# Altium footprint library WR-TBL_Pluggable Connector_7.62mm.PcbLib: 79 footprints (part 3 of 5)
Each footprint in its own frame and in the unit in brackets; x right, y up, seen from the top. Pads: shape width x height; smd on the part's side, far side on the other; paste and mask are expansions set on the pad; w line width, h text height; cw(c..) or ccw(c..) is an arc to the next point about the centre after c.
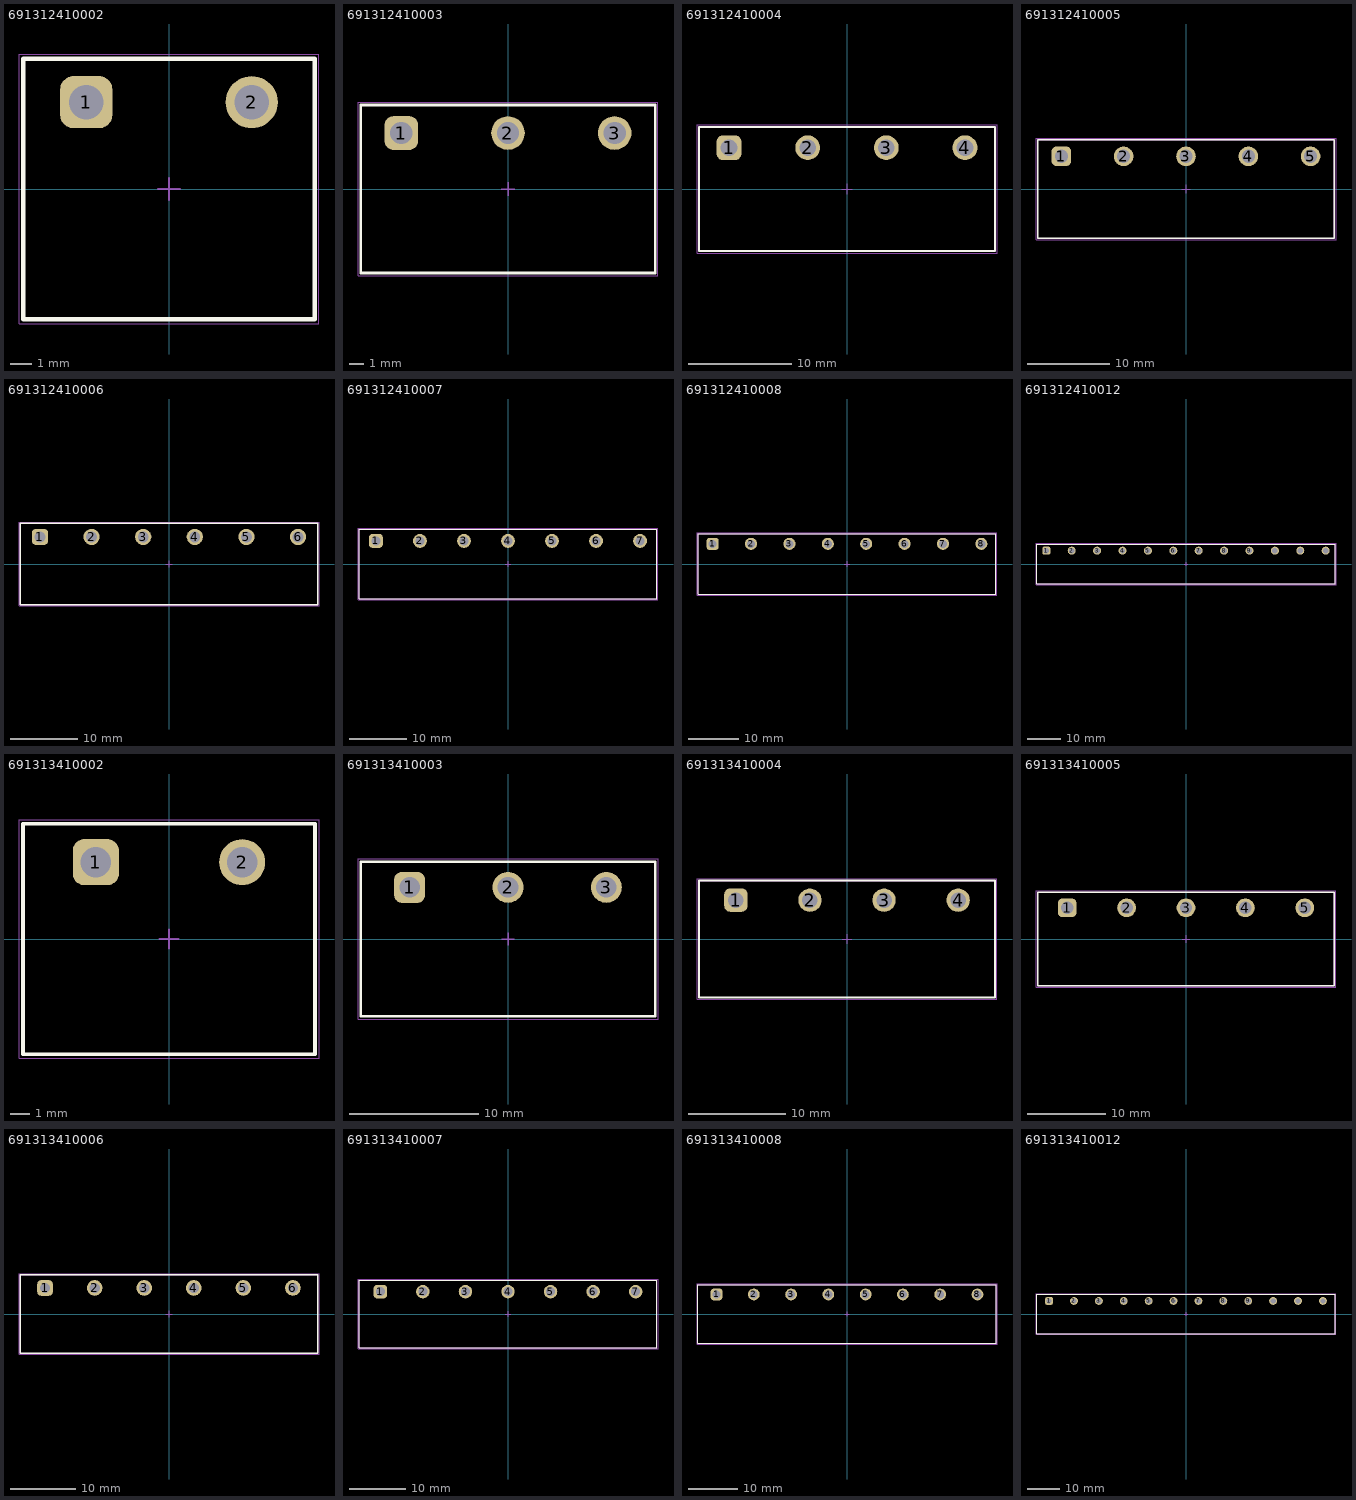
[diagram p2: the footprints below, top view; thin cyan lines are the x and y axes]

## 691312410002 [mm] "7.62 mm -Open Horizontal PCB Header - 02p"
height 8.5
pads (2):
  rrect50% 2.4x2.4 hole 1.6: 1(-3.81,4)
  round 2.4 hole 1.6: 2(3.81,4)
Top Overlay:
  lines w0.2: -6.71,-6 6.71,-6 6.71,6 -6.71,6 -6.71,-6
Top Assembly:
  lines w0.1: -6.71,-6 -6.71,6 6.71,6 6.71,-6 -6.71,-6
Top Designator:
  text ".Designator" at -3.647,-0.357 h1
Top 3D Body:
  lines w0.1: -6.71,-6 6.71,-6 6.71,6 -6.71,6 -6.71,-6
Top Courtyard:
  lines w0.05: -6.91,-6.2 -6.91,6.2 6.91,6.2 6.91,-6.2 -6.91,-6.2
Top Component Center:
  lines w0.1: -0.5,0 0.5,0 ; 0,-0.5 0,0.5
3D body "691312410002.stp": height 8.55, standoff -3.95, extent -6.71,-6 6.71,6

## 691312410003 [mm] "7.62 mm -Open Horizontal PCB Header - 03p"
height 8.5
pads (3):
  rrect50% 2.4x2.4 hole 1.6: 1(-7.62,4)
  round 2.4 hole 1.6: 2(0,4) 3(7.62,4)
Top Overlay:
  lines w0.2: -10.52,-6 -10.52,6 10.52,6 10.52,-6 -10.52,-6
Top Assembly:
  lines w0.1: -10.52,-6 10.52,-6 10.52,6 -10.52,6 -10.52,-6
Top Designator:
  text ".Designator" at -3.647,-0.357 h1
Top 3D Body:
  lines w0.1: -10.52,-6 -10.52,6 10.52,6 10.52,-6 -10.52,-6
Top Courtyard:
  lines w0.05: -10.72,-6.2 10.72,-6.2 10.72,6.2 -10.72,6.2 -10.72,-6.2
Top Component Center:
  lines w0.1: -0.5,0 0.5,0 ; 0,-0.5 0,0.5
3D body "691312410003.stp": height 8.55, standoff -3.95, extent -10.52,-6 10.52,6

## 691312410004 [mm] "7.62 mm -Open Horizontal PCB Header - 04p"
height 8.5
pads (4):
  rrect50% 2.4x2.4 hole 1.6: 1(-11.43,4)
  round 2.4 hole 1.6: 2(-3.81,4) 3(3.81,4) 4(11.43,4)
Top Overlay:
  lines w0.2: -14.33,-6 -14.33,6 14.33,6 14.33,-6 -14.33,-6
Top Assembly:
  lines w0.1: -14.33,-6 14.33,-6 14.33,6 -14.33,6 -14.33,-6
Top Designator:
  text ".Designator" at -3.647,-0.357 h1
Top 3D Body:
  lines w0.1: -14.33,-6 -14.33,6 14.33,6 14.33,-6 -14.33,-6
Top Courtyard:
  lines w0.05: -14.53,-6.2 14.53,-6.2 14.53,6.2 -14.53,6.2 -14.53,-6.2
Top Component Center:
  lines w0.1: -0.5,0 0.5,0 ; 0,-0.5 0,0.5
3D body "691312410004.stp": height 8.55, standoff -3.95, extent -14.33,-6 14.33,6

## 691312410005 [mm] "7.62 mm -Open Horizontal PCB Header - 05p"
height 8.5
pads (5):
  rrect50% 2.4x2.4 hole 1.6: 1(-15.24,4)
  round 2.4 hole 1.6: 2(-7.62,4) 3(0,4) 4(7.62,4) 5(15.24,4)
Top Overlay:
  lines w0.2: -18.14,-6 -18.14,6 18.14,6 18.14,-6 -18.14,-6
Top Assembly:
  lines w0.1: -18.14,-6 18.14,-6 18.14,6 -18.14,6 -18.14,-6
Top Designator:
  text ".Designator" at -3.647,-0.357 h1
Top 3D Body:
  lines w0.1: -18.14,-6 -18.14,6 18.14,6 18.14,-6 -18.14,-6
Top Courtyard:
  lines w0.05: -18.34,-6.2 18.34,-6.2 18.34,6.2 -18.34,6.2 -18.34,-6.2
Top Component Center:
  lines w0.1: -0.5,0 0.5,0 ; 0,-0.5 0,0.5
3D body "691312410005.stp": height 8.55, standoff -3.95, extent -18.14,-6 18.14,6

## 691312410006 [mm] "7.62 mm -Open Horizontal PCB Header - 06p"
height 8.5
pads (6):
  rrect50% 2.4x2.4 hole 1.6: 1(-19.05,4)
  round 2.4 hole 1.6: 2(-11.43,4) 3(-3.81,4) 4(3.81,4) 5(11.43,4) 6(19.05,4)
Top Overlay:
  lines w0.2: -21.95,-6 -21.95,6 21.95,6 21.95,-6 -21.95,-6
Top Assembly:
  lines w0.1: -21.95,-6 21.95,-6 21.95,6 -21.95,6 -21.95,-6
Top Designator:
  text ".Designator" at -3.647,-0.357 h1
Top 3D Body:
  lines w0.1: -21.95,-6 -21.95,6 21.95,6 21.95,-6 -21.95,-6
Top Courtyard:
  lines w0.05: -22.15,-6.2 22.15,-6.2 22.15,6.2 -22.15,6.2 -22.15,-6.2
Top Component Center:
  lines w0.1: -0.5,0 0.5,0 ; 0,-0.5 0,0.5
3D body "691312410006.stp": height 8.55, standoff -3.95, extent -21.95,-6 21.95,6

## 691312410007 [mm] "7.62 mm -Open Horizontal PCB Header - 07p"
height 8.5
pads (7):
  rrect50% 2.4x2.4 hole 1.6: 1(-22.86,4)
  round 2.4 hole 1.6: 2(-15.24,4) 3(-7.62,4) 4(0,4) 5(7.62,4) 6(15.24,4) 7(22.86,4)
Top Overlay:
  lines w0.2: -25.76,-6 25.76,-6 25.76,6 -25.76,6 -25.76,-6
Top Assembly:
  lines w0.1: -25.76,-6 -25.76,6 25.76,6 25.76,-6 -25.76,-6
Top Designator:
  text ".Designator" at -3.647,-0.357 h1
Top 3D Body:
  lines w0.1: -25.76,-6 25.76,-6 25.76,6 -25.76,6 -25.76,-6
Top Courtyard:
  lines w0.05: -25.96,-6.2 -25.96,6.2 25.96,6.2 25.96,-6.2 -25.96,-6.2
Top Component Center:
  lines w0.1: -0.5,0 0.5,0 ; 0,-0.5 0,0.5
3D body "691312410007.stp": height 8.55, standoff -3.95, extent -25.76,-6 25.76,6

## 691312410008 [mm] "7.62 mm -Open Horizontal PCB Header - 08p"
height 8.5
pads (8):
  rrect50% 2.4x2.4 hole 1.6: 1(-26.67,4)
  round 2.4 hole 1.6: 2(-19.05,4) 3(-11.43,4) 4(-3.81,4) 5(3.81,4) 6(11.43,4) 7(19.05,4) 8(26.67,4)
Top Overlay:
  lines w0.2: -29.57,-6 29.57,-6 29.57,6 -29.57,6 -29.57,-6
Top Assembly:
  lines w0.1: -29.57,-6 -29.57,6 29.57,6 29.57,-6 -29.57,-6
Top Designator:
  text ".Designator" at -3.647,-0.357 h1
Top 3D Body:
  lines w0.1: -29.57,-6 29.57,-6 29.57,6 -29.57,6 -29.57,-6
Top Courtyard:
  lines w0.05: -29.77,-6.2 -29.77,6.2 29.77,6.2 29.77,-6.2 -29.77,-6.2
Top Component Center:
  lines w0.1: -0.5,0 0.5,0 ; 0,-0.5 0,0.5
3D body "691312410008.stp": height 8.55, standoff -3.95, extent -29.57,-6 29.57,6

## 691312410012 [mm] "7.62 mm -Open Horizontal PCB Header - 12p"
height 8.5
pads (12):
  rrect50% 2.4x2.4 hole 1.6: 1(-41.91,4)
  round 2.4 hole 1.6: 2(-34.29,4) 3(-26.67,4) 4(-19.05,4) 5(-11.43,4) 6(-3.81,4) 7(3.81,4) 8(11.43,4) 9(19.05,4) 10(26.67,4) 11(34.29,4) 12(41.91,4)
Top Overlay:
  lines w0.2: -44.81,-6 -44.81,6 44.81,6 44.81,-6 -44.81,-6
Top Assembly:
  lines w0.1: -44.81,-6 44.81,-6 44.81,6 -44.81,6 -44.81,-6
Top Designator:
  text ".Designator" at -3.647,-0.357 h1
Top 3D Body:
  lines w0.1: -44.81,-6 -44.81,6 44.81,6 44.81,-6 -44.81,-6
Top Courtyard:
  lines w0.05: -45.01,-6.2 45.01,-6.2 45.01,6.2 -45.01,6.2 -45.01,-6.2
Top Component Center:
  lines w0.1: -0.5,0 0.5,0 ; 0,-0.5 0,0.5
3D body "691312410012.stp": height 8.55, standoff -3.95, extent -44.81,-6 44.81,6

## 691313410002 [mm] "7.62 mm - Closed Horizonal PCB Header - 2p"
height 8.5
pads (2):
  rrect50% 2.4x2.4 hole 1.6: 1(-3.81,4)
  round 2.4 hole 1.6: 2(3.81,4)
Top Overlay:
  lines w0.2: -7.61,-6 7.61,-6 7.61,6 -7.61,6 -7.61,-6
Top Assembly:
  lines w0.1: -7.61,-6 -7.61,6 7.61,6 7.61,-6 -7.61,-6
Top Designator:
  text ".Designator" at -3.647,-0.357 h1
Top 3D Body:
  lines w0.1: -7.61,-6 7.61,-6 7.61,6 -7.61,6 -7.61,-6
Top Courtyard:
  lines w0.05: -7.81,-6.2 7.81,-6.2 7.81,6.2 -7.81,6.2 -7.81,-6.2
Top Component Center:
  lines w0.1: -0.5,0 0.5,0 ; 0,-0.5 0,0.5
3D body "691313410002.stp": height 8.55, standoff -3.95, extent -7.62,-6 7.62,6

## 691313410003 [mm] "7.62 mm - Closed Horizonal PCB Header - 3p"
height 8.5
pads (3):
  rrect50% 2.4x2.4 hole 1.6: 1(-7.62,4)
  round 2.4 hole 1.6: 2(0,4) 3(7.62,4)
Top Overlay:
  lines w0.2: -11.42,-6 -11.42,6 11.42,6 11.42,-6 -11.42,-6
Top Assembly:
  lines w0.1: -11.42,-6 11.42,-6 11.42,6 -11.42,6 -11.42,-6
Top Designator:
  text ".Designator" at -3.647,-0.357 h1
Top 3D Body:
  lines w0.1: -11.42,-6 -11.42,6 11.42,6 11.42,-6 -11.42,-6
Top Courtyard:
  lines w0.05: -11.62,-6.2 -11.62,6.2 11.62,6.2 11.62,-6.2 -11.62,-6.2
Top Component Center:
  lines w0.1: -0.5,0 0.5,0 ; 0,-0.5 0,0.5
3D body "691313410003.stp": height 8.55, standoff -3.95, extent -11.43,-6 11.43,6

## 691313410004 [mm] "7.62 mm - Closed Horizonal PCB Header - 4p"
height 8.5
pads (4):
  rrect50% 2.4x2.4 hole 1.6: 1(-11.43,4)
  round 2.4 hole 1.6: 2(-3.81,4) 3(3.81,4) 4(11.43,4)
Top Overlay:
  lines w0.2: -15.23,-6 15.23,-6 15.23,6 -15.23,6 -15.23,-6
Top Assembly:
  lines w0.1: -15.23,-6 -15.23,6 15.23,6 15.23,-6 -15.23,-6
Top Designator:
  text ".Designator" at -3.647,-0.357 h1
Top 3D Body:
  lines w0.1: -15.23,-6 15.23,-6 15.23,6 -15.23,6 -15.23,-6
Top Courtyard:
  lines w0.05: -15.43,-6.2 15.43,-6.2 15.43,6.2 -15.43,6.2 -15.43,-6.2
Top Component Center:
  lines w0.1: -0.5,0 0.5,0 ; 0,-0.5 0,0.5
3D body "691313410004.stp": height 8.55, standoff -3.95, extent -15.24,-6 15.24,6

## 691313410005 [mm] "7.62 mm - Closed Horizonal PCB Header - 5p"
height 8.5
pads (5):
  rrect50% 2.4x2.4 hole 1.6: 1(-15.24,4)
  round 2.4 hole 1.6: 2(-7.62,4) 3(0,4) 4(7.62,4) 5(15.24,4)
Top Overlay:
  lines w0.2: -19.04,-6 -19.04,6 19.04,6 19.04,-6 -19.04,-6
Top Assembly:
  lines w0.1: -19.04,-6 19.04,-6 19.04,6 -19.04,6 -19.04,-6
Top Designator:
  text ".Designator" at -3.647,-0.357 h1
Top 3D Body:
  lines w0.1: -19.04,-6 -19.04,6 19.04,6 19.04,-6 -19.04,-6
Top Courtyard:
  lines w0.05: -19.24,-6.2 -19.24,6.2 19.24,6.2 19.24,-6.2 -19.24,-6.2
Top Component Center:
  lines w0.1: -0.5,0 0.5,0 ; 0,-0.5 0,0.5
3D body "691313410005.stp": height 8.55, standoff -3.95, extent -19.05,-6 19.05,6

## 691313410006 [mm] "7.62 mm - Closed Horizonal PCB Header - 6p"
height 8.5
pads (6):
  rrect50% 2.4x2.4 hole 1.6: 1(-19.05,4)
  round 2.4 hole 1.6: 2(-11.43,4) 3(-3.81,4) 4(3.81,4) 5(11.43,4) 6(19.05,4)
Top Overlay:
  lines w0.2: -22.85,-6 -22.85,6 22.85,6 22.85,-6 -22.85,-6
Top Assembly:
  lines w0.1: -22.85,-6 22.85,-6 22.85,6 -22.85,6 -22.85,-6
Top Designator:
  text ".Designator" at -3.647,-0.357 h1
Top 3D Body:
  lines w0.1: -22.85,-6 -22.85,6 22.85,6 22.85,-6 -22.85,-6
Top Courtyard:
  lines w0.05: -23.05,-6.2 -23.05,6.2 23.05,6.2 23.05,-6.2 -23.05,-6.2
Top Component Center:
  lines w0.1: -0.5,0 0.5,0 ; 0,-0.5 0,0.5
3D body "691313410006.stp": height 8.55, standoff -3.95, extent -22.86,-6 22.86,6

## 691313410007 [mm] "7.62 mm - Closed Horizonal PCB Header - 7p"
height 8.5
pads (7):
  rrect50% 2.4x2.4 hole 1.6: 1(-22.86,4)
  round 2.4 hole 1.6: 2(-15.24,4) 3(-7.62,4) 4(0,4) 5(7.62,4) 6(15.24,4) 7(22.86,4)
Top Overlay:
  lines w0.2: -26.66,-6 26.66,-6 26.66,6 -26.66,6 -26.66,-6
Top Assembly:
  lines w0.1: -26.66,-6 -26.66,6 26.66,6 26.66,-6 -26.66,-6
Top Designator:
  text ".Designator" at -3.647,-0.357 h1
Top 3D Body:
  lines w0.1: -26.66,-6 26.66,-6 26.66,6 -26.66,6 -26.66,-6
Top Courtyard:
  lines w0.05: -26.86,-6.2 26.86,-6.2 26.86,6.2 -26.86,6.2 -26.86,-6.2
Top Component Center:
  lines w0.1: -0.5,0 0.5,0 ; 0,-0.5 0,0.5
3D body "691313410007.stp": height 8.55, standoff -3.95, extent -26.67,-6 26.67,6

## 691313410008 [mm] "7.62 mm - Closed Horizonal PCB Header - 8p"
height 8.5
pads (8):
  rrect50% 2.4x2.4 hole 1.6: 1(-26.67,4)
  round 2.4 hole 1.6: 2(-19.05,4) 3(-11.43,4) 4(-3.81,4) 5(3.81,4) 6(11.43,4) 7(19.05,4) 8(26.67,4)
Top Overlay:
  lines w0.2: -30.47,-6 30.47,-6 30.47,6 -30.47,6 -30.47,-6
Top Assembly:
  lines w0.1: -30.47,-6 -30.47,6 30.47,6 30.47,-6 -30.47,-6
Top Designator:
  text ".Designator" at -3.647,-0.357 h1
Top 3D Body:
  lines w0.1: -30.47,-6 30.47,-6 30.47,6 -30.47,6 -30.47,-6
Top Courtyard:
  lines w0.05: -30.67,-6.2 30.67,-6.2 30.67,6.2 -30.67,6.2 -30.67,-6.2
Top Component Center:
  lines w0.1: -0.5,0 0.5,0 ; 0,-0.5 0,0.5
3D body "691313410008.stp": height 8.55, standoff -3.95, extent -30.48,-6 30.48,6

## 691313410012 [mm] "7.62 mm - Closed Horizonal PCB Header - 12p"
height 8.5
pads (12):
  rrect50% 2.4x2.4 hole 1.6: 1(-41.91,4)
  round 2.4 hole 1.6: 2(-34.29,4) 3(-26.67,4) 4(-19.05,4) 5(-11.43,4) 6(-3.81,4) 7(3.81,4) 8(11.43,4) 9(19.05,4) 10(26.67,4) 11(34.29,4) 12(41.91,4)
Top Overlay:
  lines w0.2: -45.71,-6 45.71,-6 45.71,6 -45.71,6 -45.71,-6
Top Assembly:
  lines w0.1: -45.71,-6 -45.71,6 45.71,6 45.71,-6 -45.71,-6
Top Designator:
  text ".Designator" at -3.647,-0.357 h1
Top 3D Body:
  lines w0.1: -45.71,-6 45.71,-6 45.71,6 -45.71,6 -45.71,-6
Top Courtyard:
  lines w0.05: -45.91,-6.2 45.91,-6.2 45.91,6.2 -45.91,6.2 -45.91,-6.2
Top Component Center:
  lines w0.1: -0.5,0 0.5,0 ; 0,-0.5 0,0.5
3D body "691313410012.stp": height 8.55, standoff -3.95, extent -45.72,-6 45.72,6